# Altium footprint library this.PcbLib: 20 footprints (part 2 of 2)
Each footprint in its own frame and in the unit in brackets; x right, y up, seen from the top. Pads: shape width x height; smd on the part's side, far side on the other; paste and mask are expansions set on the pad; w line width, h text height; cw(c..) or ccw(c..) is an arc to the next point about the centre after c.
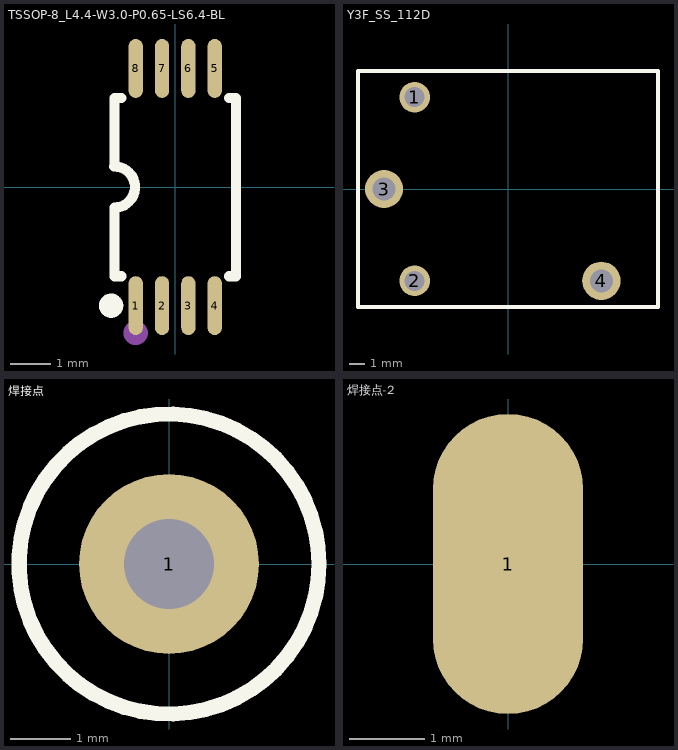
[diagram p1: the footprints below, top view; thin cyan lines are the x and y axes]

## TSSOP-8_L4.4-W3.0-P0.65-LS6.4-BL [mm]
pads (8):
  oval 0.353x1.454 smd: 1(-0.975,-2.927) 2(-0.325,-2.927) 3(0.325,-2.927) 4(0.975,-2.927) 5(0.975,2.927) 6(0.325,2.927) 7(-0.325,2.927) 8(-0.975,2.927)
Top Overlay:
  circle w0.3: c-1.581,-2.927 r0.15
  lines w0.254: -1.501,0.508 cw(c-1.501,0) -1.5,-0.508 -1.5,-2.2 -1.328,-2.2 ; -1.5,0.508 -1.5,2.2 -1.328,2.2 ; 1.328,-2.2 1.5,-2.2 1.5,2.2 1.328,2.2
Mechanical 15:
  circle w0.3: c-0.975,-3.6 r0.15

## Y3F_SS_112D [mm]
pads (4):
  round 2 hole 1.3: 1(-6.1,6) 2(-6.1,-6)
  round 2.5 hole 1.5: 3(-8.1,0) 4(6.1,-6)
Top Overlay:
  lines w0.254: -9.8,-7.7 9.8,-7.7 9.8,7.7 -9.8,7.7 -9.8,-7.7

## 焊接点 [mm] "焊接点3mm"
pads (1):
  round 3 hole 1.5: 1(0,0)
Top Overlay:
  circle w0.254: c0,0 r2.5
Bottom Overlay:
  circle w0.254: c0,0 r2.5

## 焊接点-2 [mm] "焊接点3mm"
pads (1):
  oval 2x4 smd: 1(0,0)